# EAGLE library part MCP23017T-E/SO (library CustomPartsByIcE)
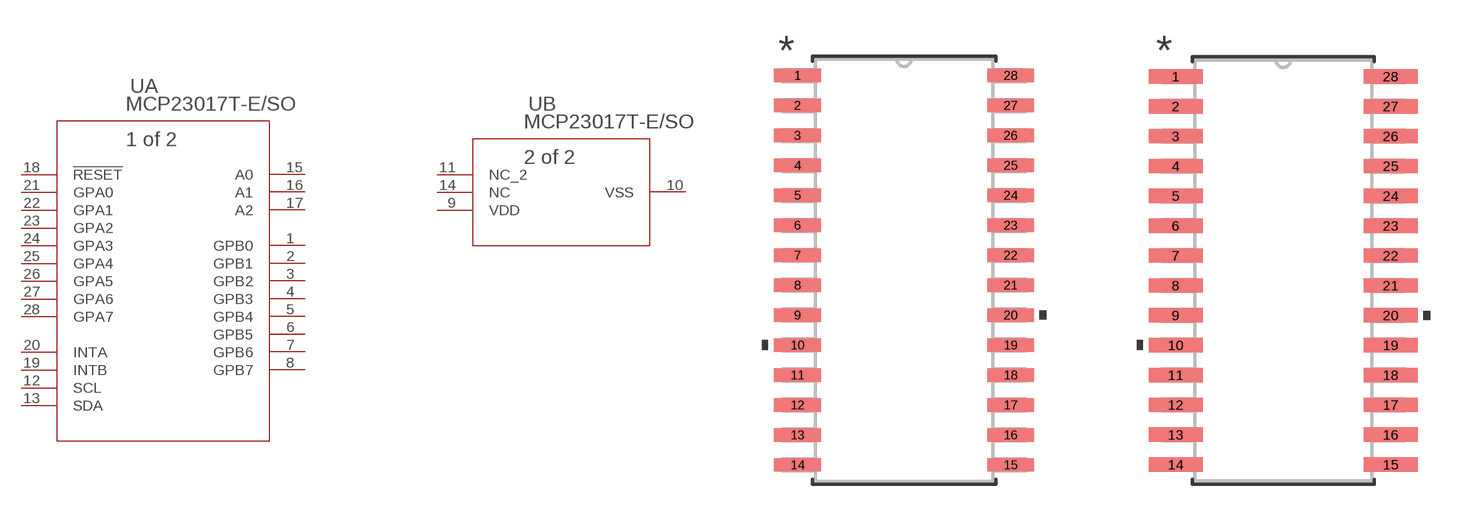
[diagram p1: symbol with the pads of SOIC28-W_MC; footprints SOIC28-W_MC, SOIC28-W_MC-M]

Designator prefix U; gates A=MCP23017T-E/SO B=MCP23017T-E/SO_A

## MCP23017T-E/SO (MANUFACTURER_PART_NUMBER: MCP23017TESO; VENDOR: Microchip)  [SOIC28-W_MC]
1  A:GPB0  pas
2  A:GPB1  pas
3  A:GPB2  pas
4  A:GPB3  pas
5  A:GPB4  pas
6  A:GPB5  pas
7  A:GPB6  pas
8  A:GPB7  pas
9  B:VDD  pas
10  B:VSS  pas
11  B:NC_2  pas
12  A:SCL  pas
13  A:SDA  pas
14  B:NC  pas
15  A:A0  pas
16  A:A1  pas
17  A:A2  pas
18  A:!RESET  pas
19  A:INTB  pas
20  A:INTA  pas
21  A:GPA0  pas
22  A:GPA1  pas
23  A:GPA2  pas
24  A:GPA3  pas
25  A:GPA4  pas
26  A:GPA5  pas
27  A:GPA6  pas
28  A:GPA7  pas

## MCP23017T-E/SOSOIC28-W_MC-M (MANUFACTURER_PART_NUMBER: MCP23017TESO; VENDOR: Microchip)  [SOIC28-W_MC-M]
Pads as for SOIC28-W_MC

## MCP23017T-E/SOSOIC28-W_MC-L (MANUFACTURER_PART_NUMBER: MCP23017TESO; VENDOR: Microchip)  [SOIC28-W_MC-L]
Pads as for SOIC28-W_MC

## Footprint SOIC28-W_MC (pad centres in mm)
smd 1.981 x 0.559: 1 -4.515,8.255; 2 -4.515,6.985; 3 -4.515,5.715; 4 -4.515,4.445; 5 -4.515,3.175; 6 -4.515,1.905; 7 -4.515,0.635; 8 -4.515,-0.635; 9 -4.515,-1.905; 10 -4.515,-3.175; 11 -4.515,-4.445; 12 -4.515,-5.715; 13 -4.515,-6.985; 14 -4.515,-8.255; 15 4.515,-8.255; 16 4.515,-6.985; 17 4.515,-5.715; 18 4.515,-4.445; 19 4.515,-3.175; 20 4.515,-1.905; 21 4.515,-0.635; 22 4.515,0.635; 23 4.515,1.905; 24 4.515,3.175; 25 4.515,4.445; 26 4.515,5.715; 27 4.515,6.985; 28 4.515,8.255

## Footprint SOIC28-W_MC-M (pad centres in mm)
smd 2.286 x 0.61: 1 -4.572,8.255; 2 -4.572,6.985; 3 -4.572,5.715; 4 -4.572,4.445; 5 -4.572,3.175; 6 -4.572,1.905; 7 -4.572,0.635; 8 -4.572,-0.635; 9 -4.572,-1.905; 10 -4.572,-3.175; 11 -4.572,-4.445; 12 -4.572,-5.715; 13 -4.572,-6.985; 14 -4.572,-8.255; 15 4.572,-8.255; 16 4.572,-6.985; 17 4.572,-5.715; 18 4.572,-4.445; 19 4.572,-3.175; 20 4.572,-1.905; 21 4.572,-0.635; 22 4.572,0.635; 23 4.572,1.905; 24 4.572,3.175; 25 4.572,4.445; 26 4.572,5.715; 27 4.572,6.985; 28 4.572,8.255

## Footprint SOIC28-W_MC-L (pad centres in mm)
smd 1.676 x 0.508: 1 -4.47,8.255; 2 -4.47,6.985; 3 -4.47,5.715; 4 -4.47,4.445; 5 -4.47,3.175; 6 -4.47,1.905; 7 -4.47,0.635; 8 -4.47,-0.635; 9 -4.47,-1.905; 10 -4.47,-3.175; 11 -4.47,-4.445; 12 -4.47,-5.715; 13 -4.47,-6.985; 14 -4.47,-8.255; 15 4.47,-8.255; 16 4.47,-6.985; 17 4.47,-5.715; 18 4.47,-4.445; 19 4.47,-3.175; 20 4.47,-1.905; 21 4.47,-0.635; 22 4.47,0.635; 23 4.47,1.905; 24 4.47,3.175; 25 4.47,4.445; 26 4.47,5.715; 27 4.47,6.985; 28 4.47,8.255